# Altium footprint library MSP430F5438.PcbLib: 1 footprints
Each footprint in its own frame and in the unit in brackets; x right, y up, seen from the top. Pads: shape width x height; smd on the part's side, far side on the other; paste and mask are expansions set on the pad; w line width, h text height; cw(c..) or ccw(c..) is an arc to the next point about the centre after c.
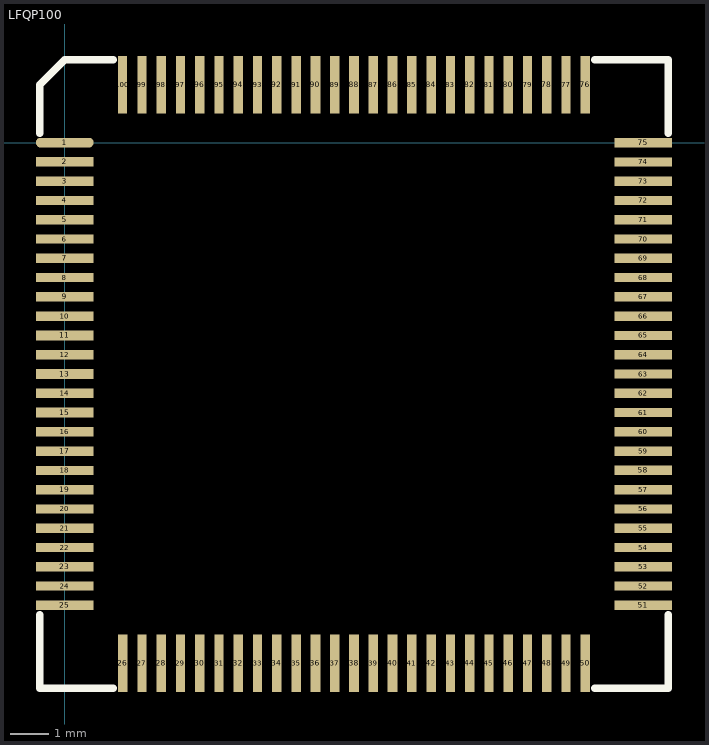
[diagram p0: the footprint, top view; thin cyan lines are the x and y axes]

## LFQP100 [mm]
pads (100):
  oval 1.5x0.25 smd: 1(0,0)
  rect 1.5x0.25 smd: 2(0,-0.5) 3(0,-1) 5(0,-2) 7(0,-3) 9(0,-4) 11(0,-5) 13(0,-6) 15(0,-7) 17(0,-8) 19(0,-9) 23(0,-11) 25(0,-12) 51(15,-12) 58(15,-8.5) 75(15,0)
  rect 1.5x0.24 smd: 4(0,-1.5) 6(0,-2.5) 8(0,-3.5) 10(0,-4.5) 12(0,-5.5) 14(0,-6.5) 16(0,-7.5) 18(0,-8.5) 20(0,-9.5) 21(0,-10) 22(0,-10.5) 24(0,-11.5) 52(15,-11.5) 53(15,-11) 54(15,-10.5) 55(15,-10) 56(15,-9.5) 57(15,-9) 59(15,-8) 60(15,-7.5) 61(15,-7) 62(15,-6.5) 63(15,-6) 64(15,-5.5) 65(15,-5) 66(15,-4.5) 67(15,-4) 68(15,-3.5) 69(15,-3) 70(15,-2.5) 71(15,-2) 72(15,-1.5) 73(15,-1) 74(15,-0.5)
  rect 0.25x1.5 smd: 26(1.5,-13.5) 28(2.5,-13.5) 30(3.5,-13.5) 32(4.5,-13.5) 34(5.5,-13.5) 36(6.5,-13.5) 38(7.5,-13.5) 40(8.5,-13.5) 42(9.5,-13.5) 44(10.5,-13.5) 46(11.5,-13.5) 48(12.5,-13.5) 50(13.5,-13.5) 76(13.5,1.5) 78(12.5,1.5) 80(11.5,1.5) 82(10.5,1.5) 84(9.5,1.5) 86(8.5,1.5) 88(7.5,1.5) 90(6.5,1.5) 92(5.5,1.5) 94(4.5,1.5) 96(3.5,1.5)
  rect 0.24x1.5 smd: 27(2,-13.5) 29(3,-13.5) 31(4,-13.5) 33(5,-13.5) 35(6,-13.5) 37(7,-13.5) 39(8,-13.5) 41(9,-13.5) 43(10,-13.5) 45(11,-13.5) 47(12,-13.5) 49(13,-13.5) 77(13,1.5) 79(12,1.5) 81(11,1.5) 83(10,1.5) 85(9,1.5) 87(8,1.5) 89(7,1.5) 91(6,1.5) 93(5,1.5) 95(4,1.5) 97(3,1.5) 98(2.5,1.5) 99(2,1.5) 100(1.5,1.5)
Top Overlay:
  lines w0.2: -0.65,-12.25 -0.65,-14.15 1.25,-14.15 ; -0.65,0.25 -0.65,1.5 0,2.15 1.25,2.15 ; 13.75,-14.15 15.65,-14.15 15.65,-12.25 ; 13.75,2.15 15.65,2.15 15.65,0.25